# Altium schematic symbol library User Common.SCHLIB: 2 symbols
Pins are listed as number, name and electrical type; pins without a type are passive.

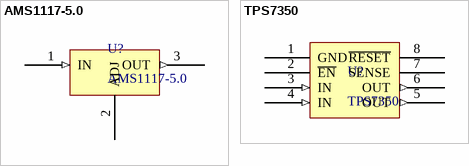
[diagram p0: symbols AMS1117-5.0 to TPS7350]

## AMS1117-5.0
designator U?
pins: 1 IN (in), 2 ADJ, 3 OUT (out)

## TPS7350
designator U?
pins: 1 GND, 2 ~{EN}, 3 IN (in), 4 IN (in), 5 OUT (out), 6 OUT (out), 7 SENSE, 8 ~{RESET}